# Altium schematic symbol library SAMV71_Xplained_Ultra.SCHLIB: 75 symbols
Pins are listed as number, name and electrical type; pins without a type are passive.

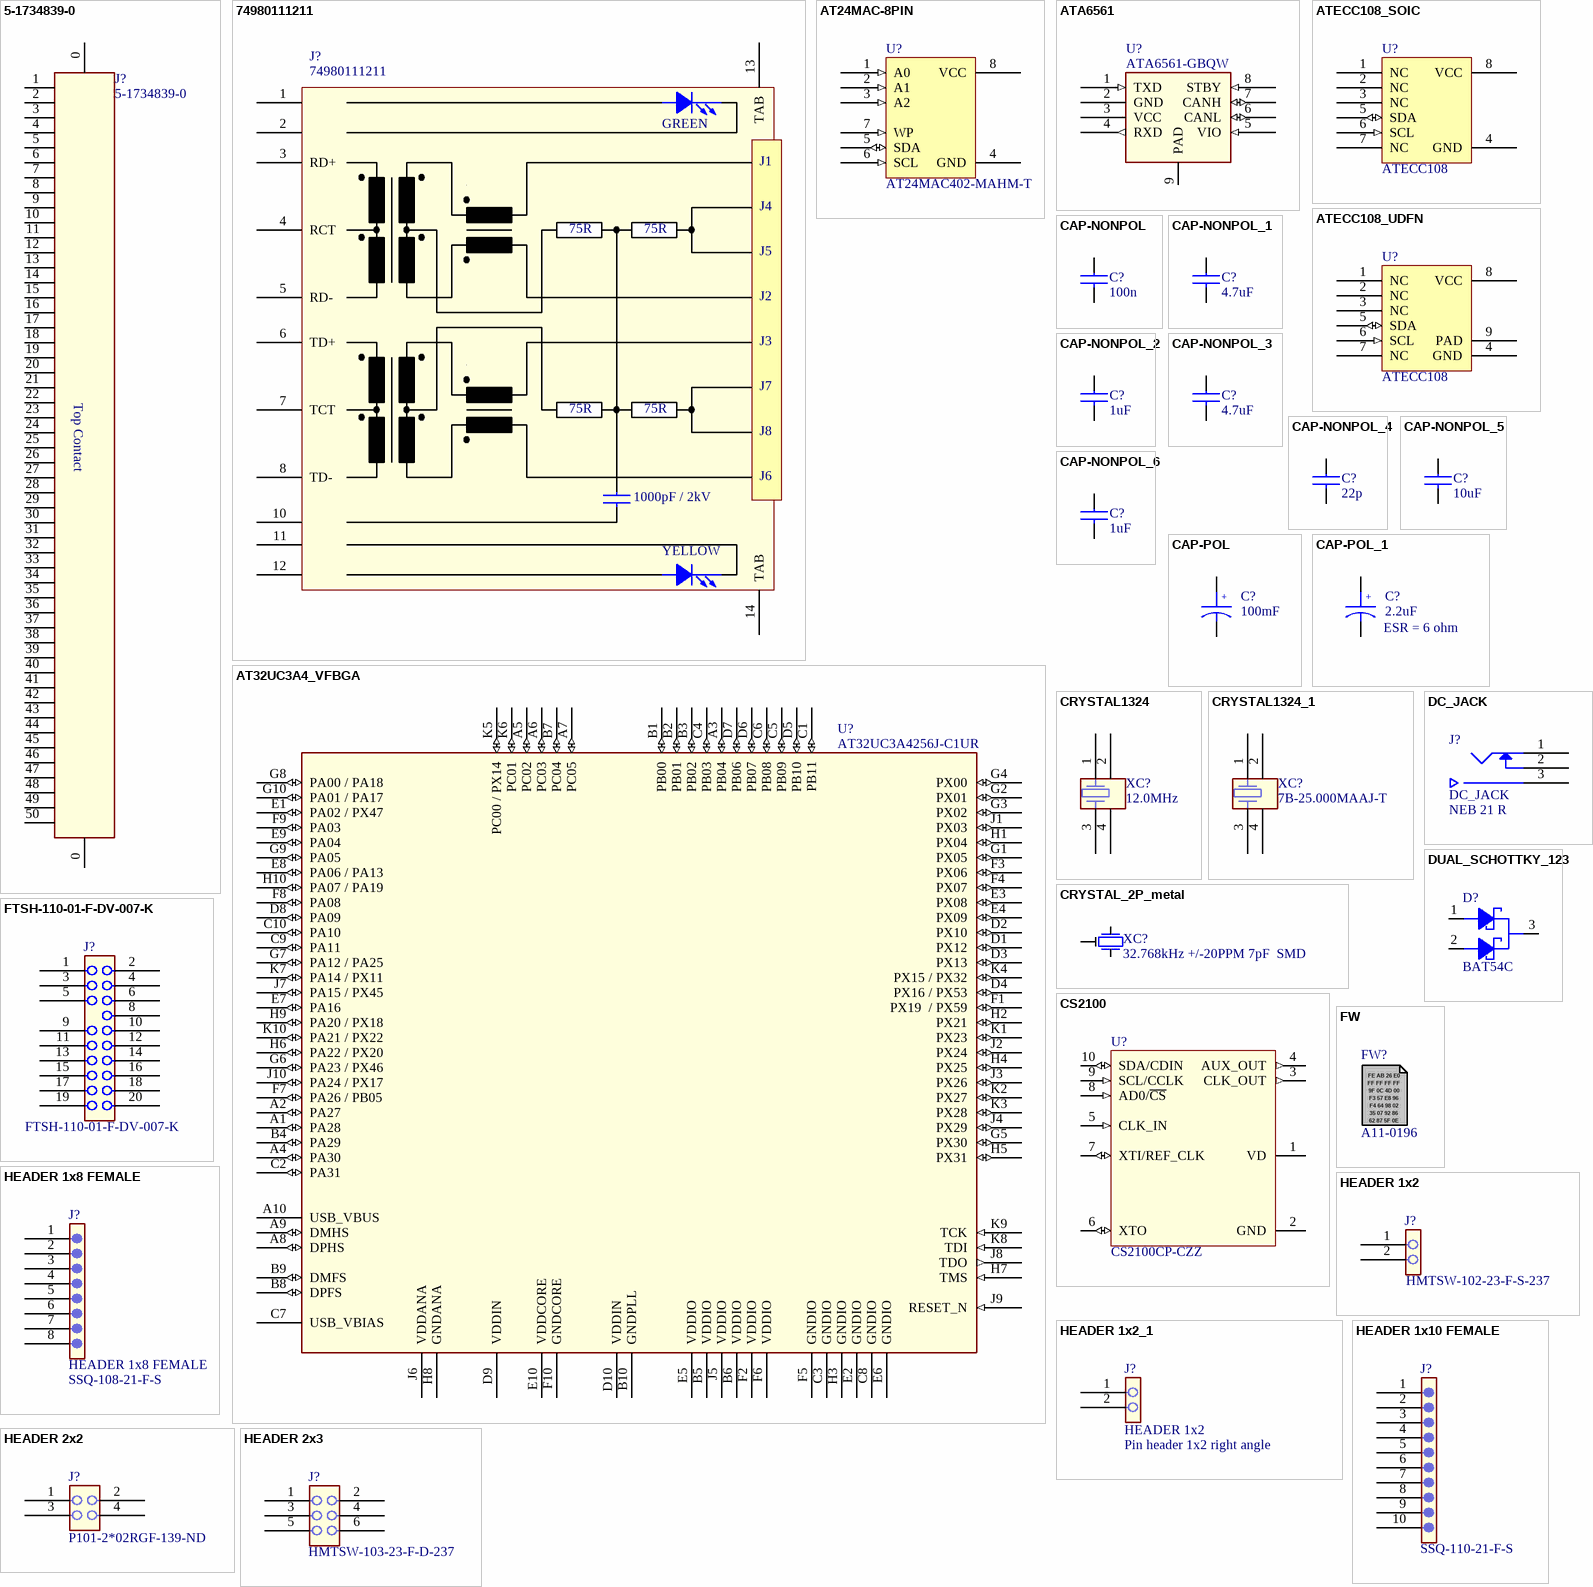
[diagram p0: symbols 5-1734839-0 to HEADER 2x3]

## 5-1734839-0
designator J?, comment value 5-1734839-0  (hidden comment: Used for Xplained Pro MCU board on top layer.)
50 pin FPC connector, e=0.5mm, single side contact (top).; PartGroup: Mechanical devices,Connectors,PCB - receptacle; Manufacturer: TE Connectivity; AN: A08-1886; TemperatureRange: -20°C to +85°C; Height: 2.04999995231628; MPN: 5-1734839-0
footprint AP8-00774
pins: 0 1, 0 1, 1, 2, 3, 4, 5, 6, 7, 8, 9, 10, 11, 12, 13, 14, 15, 16, 17, 18, 19, 20, 21, 22, 23, 24, 25, 26, 27, 28, 29, 30, 31, 32, 33, 34, 35, 36, 37, 38, 39, 40, 41, 42, 43, 44, 45, 46, 47, 48, 49, 50
text: Top Contact

## 74980111211
designator J?, comment value 74980111211  (hidden comment: RJ45)
10/100Base-TX, SMD, RJ45, green and yellow LEDs, integrated magnetics; PartGroup: Mechanical devices,Connectors,Other; Manufacturer: Würth Elektronik; AN: A08-1816; TemperatureRange: -40°C to +85°C; Height: 13,6099996566772; MPN: 74980111211
footprint AP8-00749
pins: 1, 2, 3 RD+, 4 RCT, 5 RD-, 6 TD+, 7 TCT, 8 TD-, 10, 11, 12, 13 TAB (power), 14 TAB (power)
text: GREEN; J1; J4; 75R; J5; J2; J3; J7; J8; J6; 1000pF / 2kV; YELLOW

## AT24MAC-8PIN
designator U?  value AT24MAC402-MAHM-T  (hidden comment: AT24MAC-8PIN)
2kbit I2C EEPROM, single EUI-48 MAC, 1.7-5.5V, 2x3mm UDFN (8MA2); PartGroup: Integrated Circuits,Memory,EEPROM; AN: A06-1169; TemperatureRange: â€“40Â°C to +85Â°C; Height: 0,600000023841858
footprint AP6-00186
pins: 1 A0 (in), 2 A1 (in), 3 A2 (in), 4 GND (power), 5 SDA (io), 6 SCL (in), 7 WP (in), 8 VCC (power)

## AT32UC3A4_VFBGA
designator U?, comment value AT32UC3A4256J-C1UR  (hidden comment: 100 ball VFBGA)
AVR 32-bit RISC MCU; PartGroup: Integrated Circuits,MCU, MPU, DSP,AVR MCU; Manufacturer: ATMEL; AN: A06-0736; TemperatureRange: -40 to +85 deg C; Height: 1; MPN: AT32UC3A4256J-C1UR
footprint AP6-00206
pins: A1 PA28 (io), A2 PA27 (io), A3 PB04 (io), A4 PA30 (io), A5 PC02 (io), A6 PC03 (io), A7 PC05 (io), A8 DPHS (io), A9 DMHS (io), A10 USB_VBUS (power), B1 PB00 (io), B2 PB01 (io), B3 PB02 (io), B4 PA29 (io), B5 VDDIO (power), B6 VDDIO (power), B7 PC04 (io), B8 DPFS (io), B9 DMFS (io), B10 GNDPLL (power), C1 PB11 (io), C2 PA31 (io), C3 GNDIO (power), C4 PB03 (io), C5 PB09 (io), C6 PB08 (io), C7 USB_VBIAS (power), C8 GNDIO (power), C9 PA11 (io), C10 PA10 (io), D1 PX12 (io), D2 PX10 (io), D3 PX13 (io), D4 PX16 / PX53 (io), D5 PB10 (io), D6 PB07 (io), D7 PB06 (io), D8 PA09 (io), D9 VDDIN (power), D10 VDDIN (power), E1 PA02 / PX47 (io), E2 GNDIO (power), E3 PX08 (io), E4 PX09 (io), E5 VDDIO (power), E6 GNDIO (power), E7 PA16 (io), E8 PA06 / PA13 (io), E9 PA04 (io), E10 VDDCORE (power), F1 PX19  / PX59 (io), F2 VDDIO (power), F3 PX06 (io), F4 PX07 (io), F5 GNDIO (power), F6 VDDIO (power), F7 PA26 / PB05 (io), F8 PA08 (io), F9 PA03 (io), F10 GNDCORE (power), G1 PX05 (io), G2 PX01 (io), G3 PX02 (io), G4 PX00 (io), G5 PX30 (io), G6 PA23 / PX46 (io), G7 PA12 / PA25 (io), G8 PA00 / PA18 (io), G9 PA05 (io), G10 PA01 / PA17 (io), H1 PX04 (io), H2 PX21 (io), H3 GNDIO (power), H4 PX25 (io), H5 PX31 (io), H6 PA22 / PX20 (io), H7 TMS (in), H8 GNDANA (power), H9 PA20 / PX18 (io), H10 PA07 / PA19 (io), J1 PX03 (io), J2 PX24 (io), J3 PX26 (io), J4 PX29 (io), J5 VDDIO (power), J6 VDDANA (power), J7 PA15 / PX45 (io), J8 TDO (out), J9 RESET_N (in), J10 PA24 / PX17 (io), K1 PX23 (io), K2 PX27 (io), K3 PX28 (io), K4 PX15 / PX32 (io), K5 PC00 / PX14 (io), K6 PC01 (io), K7 PA14 / PX11 (io), K8 TDI (in), K9 TCK (in), K10 PA21 / PX22 (io)

## ATA6561
designator U?  value ATA6561-GBQW  (hidden comment: ATA6561)
5Mbit/s CAN Trasceiver,VCC = 5V, VIO = 2.8-5V, 3x3 mm VDFN8; PartGroup: Integrated Circuits,Interface ICs,CAN; AN: A06-1172; Height: 0,899999976158142
footprint AP6-00407
pins: 1 TXD (in), 2 GND (power), 3 VCC (power), 4 RXD (out), 5 VIO (in), 6 CANL (io), 7 CANH (io), 8 STBY (in), 9 PAD (power)

## ATECC108_SOIC
designator U?, comment value ATECC108  (hidden comment: SOIC-8 / UDFN8 2x3mm (8MA2) footprint used for this component, usually for "not mounted" in schematics to support several Crypto devices.)
Secure authentication and product validation device, EEPROM, I2C, 2.0 - 5.5V, SOIC8; PartGroup: Integrated Circuits,Special function,Encryption; AN: A06-1182; TemperatureRange: -40Â°C to +85Â°C; Height: 1,75
footprint AP6-00071
pins: 1 NC, 2 NC, 3 NC, 4 GND (power), 5 SDA (io), 6 SCL (in), 7 NC, 8 VCC (power)

## ATECC108_UDFN
designator U?, comment value ATECC108  (hidden comment: SOIC-8 / UDFN8 2x3mm (8MA2) footprint used for this component, usually for "not mounted" in schematics to support several Crypto devices.)
Secure authentication and product validation device, EEPROM, I2C, 2.0 - 5.5V, UDFN8; PartGroup: Integrated Circuits,Special function,Encryption; AN: A06-1181; TemperatureRange: -40Â°C to +85Â°C; Height: 1,75
footprint AP6-00409
pins: 1 NC, 2 NC, 3 NC, 4 GND (power), 5 SDA (io), 6 SCL (in), 7 NC, 8 VCC (power), 9 PAD (power)

## CAP-NONPOL
designator C?  value 100n  (hidden comment: CAP-NONPOL)
Ceramic capacitor, SMD 0402, X7R, 16V, +/-10%; PartGroup: Capacitors,Ceramic,SMD 0402; Manufacturer: Kemet; MPN: C0402C104K4RACTU; AN: A01-0246; TemperatureRange: -55 - +125 deg C; Tolerance: 16V, +/-10%; Height: 0.5
footprint AP1-00001
pins: 1, 2

## CAP-NONPOL_1
designator C?, comment value 4.7uF  (hidden comment: CAP-NONPOL)
Ceramic capacitor, SMD 0603, X5R, 10V, 10% (de31036); PartGroup: Capacitors,Ceramic,SMD 0603; Manufacturer: tdk; MPN: C1608X5R1A475K; AN: A01-0377; TemperatureRange: -55 - +85 deg C; Tolerance: 10%; Height: 0.800000011920929
footprint AP1-00039
pins: 1, 2

## CAP-NONPOL_2
designator C?, comment value 1uF  (hidden comment: CAP-NONPOL)
Ceramic capacitor, SMD 0402, X5R, 10V, ±10 %; PartGroup: Capacitors,Ceramic,SMD 0402; Manufacturer: AVX; MPN: 0402ZD105KAT2A; AN: A01-0447; Height: 0.560000002384186
footprint AP1-00038
pins: 1, 2

## CAP-NONPOL_3
designator C?, comment value 4.7uF  (hidden comment: CAP-NONPOL)
Ceramic capacitor, SMD 0805, X5R, 25V, ±10 %; PartGroup: Capacitors,Ceramic,SMD 0805; Manufacturer: Murata; MPN: GRM21BR61E475KA12L; AN: A01-0400; Tolerance: ±10%; Height: 1,25
footprint AP1-00003
pins: 1, 2

## CAP-NONPOL_4
designator C?, comment 22p
Ceramic capacitor, SMD 0402, NP0, 50V, +/-5%; PartGroup: Capacitors,Ceramic,SMD 0402; AN: A01-0019; TemperatureRange: -55 - +125 deg C; Value: 22p; Tolerance: 50V, +/-5%; Height: 0,550000011920929
footprint AP1-00001
footprint AP1-00053
pins: 1, 2

## CAP-NONPOL_5
designator C?, comment value 10uF  (hidden comment: CAP-NONPOL)
Ceramic capacitor, SMD 0805, X7R, 10V, 10 %, (de19441); PartGroup: Capacitors,Ceramic,SMD 0805; Manufacturer: Murata; MPN: GRM21BR61A106KE19L; AN: A01-0360; Tolerance: 10%; TemperatureRange: -55 - +85 deg C; Height: 1,25
footprint AP1-00041
pins: 1, 2

## CAP-NONPOL_6
designator C?, comment value 1uF  (hidden comment: CAP-NONPOL)
Ceramic capacitor, SMD 0402, X5R, 10V, ±10 %; PartGroup: Capacitors,Ceramic,SMD 0402; Manufacturer: AVX; MPN: 0402ZD105KAT2A; AN: A01-0447; Height: 0.560000002384186
footprint AP1-00038
footprint AP1-00053
pins: 1, 2

## CAP-POL
designator C?, comment value 100mF  (hidden comment: For reflow soldering)
Electric Double-Layer (Supercapacitor), 100mF, SMD, 10.5mm diameter, 25Î© ESR; PartGroup: Capacitors,Other; AN: A01-0679; Tolerance: -20/+80%; TemperatureRange: -25Â°C to +70Â°C
footprint AP1-00122
pins: 1, 2
text: +

## CAP-POL_1
designator C?, comment ESR = 6 ohm  value 2.2uF
Capacitor Tantalum 10V 2.2uF 10% ESR = 6 ohm; PartGroup: Capacitors,Tantalum; Manufacturer: Kemet; MPN: T494A225K010AT; AN: A01-0492; TemperatureRange: - 55 C to + 125 C; Tolerance: ±10%; Height: 1,79999995231628
footprint AP1-00036
pins: 1, 2
text: +

## CRYSTAL1324
designator XC?  value 12.0MHz  (hidden comment: CRYSTAL1324)
Fox FQ5032B 12.0MHz SMD crystal 738B-12; PartGroup: Frequency devices,Crystals,SMD; Manufacturer: Fox  Electronics; MPN: FQ5032B-12-C-C-C-200-1 / 738B-12; AN: A07-0042; Tolerance: 30PPM; Height: 1,20000004768372
footprint AP7-00039
pins: 1, 2, 3, 4

## CRYSTAL1324_1
designator XC?, comment value 7B-25.000MAAJ-T  (hidden comment: CRYSTAL1324)
25.000 MHz crystal, 18pF, ±30ppm, 5.0 x 3.2 mm; PartGroup: Frequency devices,Crystals,SMD; Manufacturer: TXC Corporation; AN: A07-0088; TemperatureRange: -40°C to +85°C; Tolerance: ±30ppm; Height: 1,04999995231628; MPN: 7B-25.000MAAJ-T
footprint AP7-00067
pins: 1, 2, 3, 4

## CRYSTAL_2P_metal
designator XC?, comment value 32.768kHz +/-20PPM 7pF  SMD  (hidden comment: Farnell order no:1539364)
32k768 crystal, +-20ppm, CL=7pF, max ESR 60kOhm, SMD; PartGroup: Frequency devices,Crystals,SMD; Manufacturer: Micro Crystal; MPN: MS1V-T1K 32.768kHz 7pF +/-20PPM TA; AN: A07-0052; Tolerance: +/- 20 PPM; TemperatureRange: -40 /+85; Height: 2.07999992370605
footprint AP7-00044
pins: 1, 2, 3

## CS2100
designator U?  value CS2100CP-CZZ  (hidden comment: CS2100)
Programmable Phase-Locked Loop Clock Generator; PartGroup: Integrated Circuits,Special function,Oscillator; AN: A06-1177; TemperatureRange: -10Â°C to +70Â°C; Height: 1,10000002384186
footprint AP6-00097
pins: 1 VD (power), 2 GND (power), 3 CLK_OUT (out), 4 AUX_OUT (out), 5 CLK_IN (in), 6 XTO (io), 7 XTI/REF_CLK (io), 8 AD0/~{CS} (in), 9 SCL/CCLK (in), 10 SDA/CDIN (io)

## DC_JACK
designator J?  value NEB 21 R
Through hole DC jack 2.1mm, 12V, 3A; PartGroup: Mechanical devices,Connectors,Power; Manufacturer: Lumberg; AN: A08-2120; TemperatureRange: -20Â°C to +70Â°C; Height: 11; MPN: NEB 21 R
footprint AP8-00853
pins: 1, 2, 3

## DUAL_SCHOTTKY_123
designator D?  value BAT54C  (hidden comment: DUAL_SCHOTTKY_123)
Schottky double Diodes, NXP, SOT23-3; PartGroup: Diodes,Schottky; AN: A04-0064; Height: 1; Manufacturer: NXP; MPN: BAT54C
footprint AP5-00002
pins: 1 ANODE1, 2 ANODE2, 3 CATHODE

## FTSH-110-01-F-DV-007-K
designator J?
SAMTEC FTSH series 50-mil header, shrouded, pin 7 removed, SMD; PartGroup: Mechanical devices,Connectors,Pin headers; AN: A08-2290; TemperatureRange: -55Â°C to +125Â°C; Value: FTSH-110-01-F-DV-007-K; Height: 6,1100001335144
footprint AP8-00910
pins: 1, 2, 3, 4, 5, 6, 8, 9, 10, 11, 12, 13, 14, 15, 16, 17, 18, 19, 20

## FW
designator FW?  AN: A11-0196  (hidden comment: FW)  (mechanical)
EDBG secured firmware; PartGroup: Software,Firmware,Tools; Manufacturer: ATMEL; Value: EDBG secured firmware
text: FE AB 26 E0; FF FF FF FF; 9F 0C 4D 00; F3 57 E8 96; F4 64 98 02; 35 07 92 86; 62 87 5F 0E

## HEADER 1x2
designator J?  value HMTSW-102-23-F-S-237  (hidden comment: HEADER 1x2)
1x2 pin header, 2.54mm pitch, Pin-in-Paste THM; PartGroup: Mechanical devices,Connectors,Pin headers; Manufacturer: SAMTEC; AN: A08-1754; TemperatureRange: - 55 deg C to + 125 deg C; Height: 6,09999990463257; MPN: HMTSW-102-23-F-S-237
footprint AP8-00733
pins: 1, 2

## HEADER 1x2_1
designator J?, comment HEADER 1x2  value Pin header 1x2 right angle
1x2 pin header, right angle, 2.54 mm pitch, through-hole; PartGroup: Mechanical devices,Connectors,Pin headers; Manufacturer: Pro-data International Corp; MPN: 2213R-2G; AN: A08-0764; Height: 2.53999996185303
footprint AP8-00367
pins: 1, 2

## HEADER 1x8 FEMALE
designator J?  value SSQ-108-21-F-S
1x8 receptacle pin header, low insertion force, 2.54mm pitch THM, Pin in Paste; PartGroup: Mechanical devices,Connectors,Pin header receptacle; Manufacturer: SAMTEC; AN: A08-2025; Height: 8,51000022888184; MPN: SSQ-108-21-F-S
footprint AP8-00823
pins: 1, 2, 3, 4, 5, 6, 7, 8

## HEADER 1x10 FEMALE
designator J?  value SSQ-110-21-F-S  (hidden comment: HEADER 1x10 FEMALE)
1x10 receptacle pin header, low insertion force, 2.54mm pitch THM, Pin in Paste; PartGroup: Mechanical devices,Connectors,Pin header receptacle; Manufacturer: SAMTEC; AN: A08-2026; Height: 8,51000022888184; MPN: SSQ-110-21-F-S
footprint AP8-00822
pins: 1, 2, 3, 4, 5, 6, 7, 8, 9, 10

## HEADER 2x2
designator J?  value P101-2*02RGF-139-ND  (hidden comment: HEADER 2x2)
Pin header, 2x2, Right Angle, 2.54mm, THT, Pin In Paste; PartGroup: Mechanical devices,Connectors,Pin headers; AN: A08-1519; Height: 5.07999992370605; MPN: P101-2*02RGF-139-ND
footprint AP8-00628
pins: 1, 2, 3, 4

## HEADER 2x3
designator J?  value HMTSW-103-23-F-D-237  (hidden comment: HEADER 2x3)
2x3 pin header, 2.54mm pitch, Pin-in-Paste THM; PartGroup: Mechanical devices,Connectors,Pin headers; Manufacturer: SAMTEC; AN: A08-1654; TemperatureRange: - 55 ï¿½C to + 125 ï¿½C; Height: 6,09999990463257; MPN: HMTSW-103-23-F-D-237
footprint AP8-00182
pins: 1, 2, 3, 4, 5, 6
1 alternate drawing of the same symbol

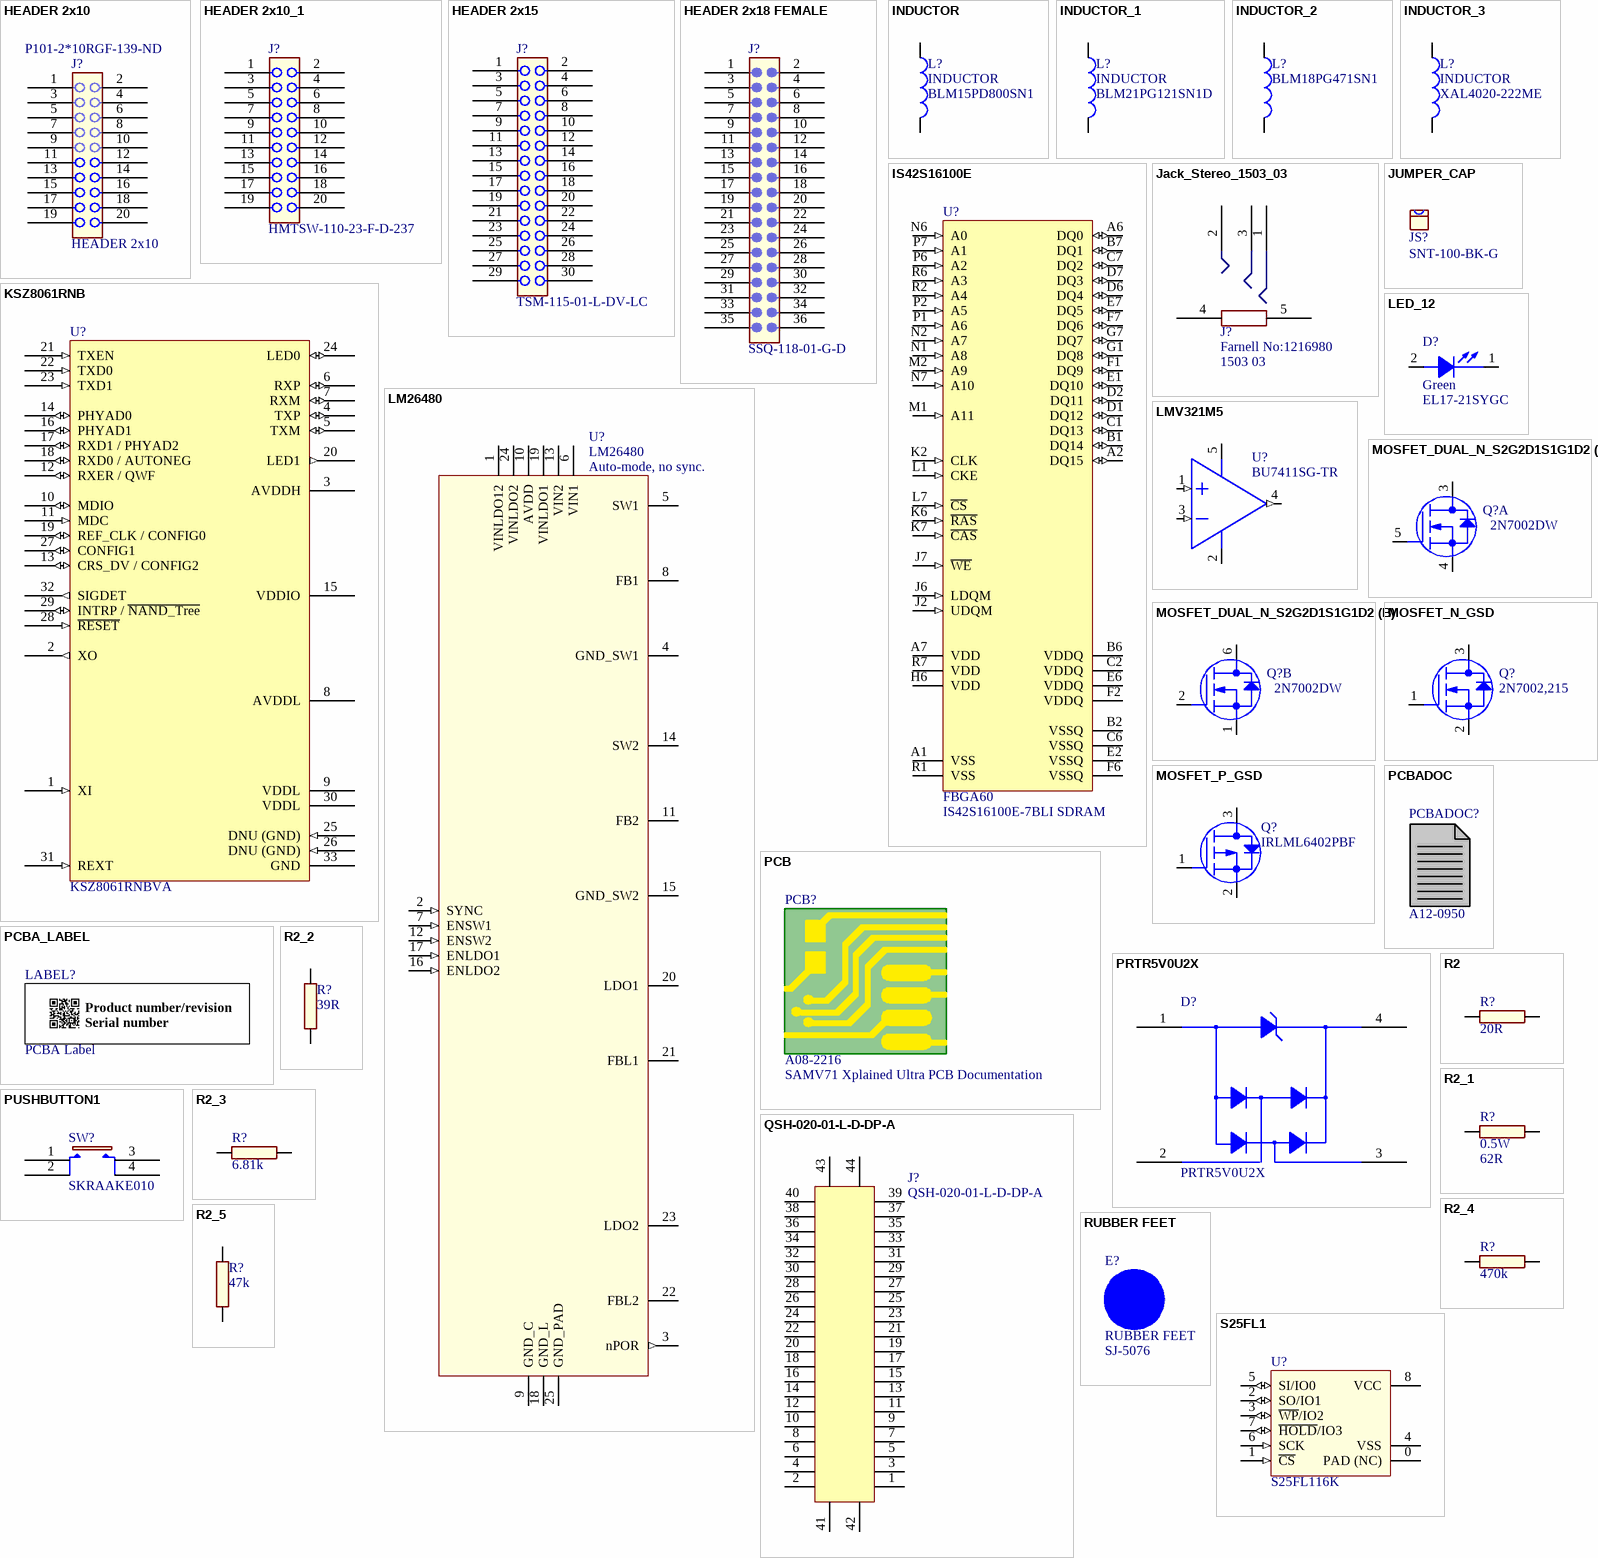
[diagram p1: symbols HEADER 2x10 to S25FL1]

## HEADER 2x10
designator J?  value P101-2*10RGF-139-ND
Pin header, 2x10, Right Angle, 2.54mm, THM, Pin In Paste; PartGroup: Mechanical devices,Connectors,Pin headers; AN: A08-1513; MPN: P101-2*10RGF-139-ND
footprint AP8-00622
pins: 1, 2, 3, 4, 5, 6, 7, 8, 9, 10, 11, 12, 13, 14, 15, 16, 17, 18, 19, 20

## HEADER 2x10_1
designator J?, comment value HMTSW-110-23-F-D-237  (hidden comment: Same as A08-1514 but with 1mm hole)
2x10 pin header, 2.54mm pitch, Pin-in-Paste THM, 1mm hole; PartGroup: Mechanical devices,Connectors,Pin headers; Manufacturer: SAMTEC; AN: A08-1801; Height: 6,09999990463257; MPN: HMTSW-110-23-F-D-237
footprint AP8-00744
pins: 1, 2, 3, 4, 5, 6, 7, 8, 9, 10, 11, 12, 13, 14, 15, 16, 17, 18, 19, 20

## HEADER 2x15
designator J?  value TSM-115-01-L-DV-LC  (hidden comment: HEADER 2x15)
Samtec TSM series, 2x15 pin header, straight, 2.54mm pitch SMD, locking leads.; PartGroup: Mechanical devices,Connectors,Pin headers; AN: A08-2225; TemperatureRange: -55Â°C to +125Â°C; Height: 9,64999961853027
footprint AP8-00884
pins: 1, 2, 3, 4, 5, 6, 7, 8, 9, 10, 11, 12, 13, 14, 15, 16, 17, 18, 19, 20, 21, 22, 23, 24, 25, 26, 27, 28, 29, 30

## HEADER 2x18 FEMALE
designator J?  value SSQ-118-01-G-D  (hidden comment: HEADER 2x18 FEMALE)
2x18 female pin header, 2.54mm pitch, THM; PartGroup: Mechanical devices,Connectors,Pin header receptacle; Manufacturer: SAMTEC; AN: A08-0387; TemperatureRange: -55 - +125 degC; Height: 8,51000022888184; MPN: SSQ-118-01-G-D
footprint AP8-00259
pins: 1, 2, 3, 4, 5, 6, 7, 8, 9, 10, 11, 12, 13, 14, 15, 16, 17, 18, 19, 20, 21, 22, 23, 24, 25, 26, 27, 28, 29, 30, 31, 32, 33, 34, 35, 36

## INDUCTOR
designator L?  value BLM15PD800SN1
FERRITE CHIP 80 OHM 1500MA 0402; PartGroup: Inductors,EMI; Manufacturer: Murata; AN: A03-0142; Tolerance: ±25%; TemperatureRange: -55 ° C to +125 ° C; Height: 0.5; MPN: BLM15PD800SN1
footprint AP3-00028
pins: 1, 2

## INDUCTOR_1
designator L?, comment INDUCTOR  value BLM21PG121SN1D
SMD EMI FERRITE 0805, Z=120 ohm(@100MHz), Max R(dc)=0.03 ohm, Max current=3A, (Digikey:490-5986-2-ND); PartGroup: Inductors,EMI; Manufacturer: Murata; AN: A03-0167; TemperatureRange: -55 to +125Â°C; Height: 0.899999976158142; MPN: BLM21PG121SN1D
footprint AP3-00104
pins: 1, 2

## INDUCTOR_2
designator L?, comment BLM18PG471SN1
SMD RF inductor 0603. Z=470Ohm (@100MHz), Max R(dc)=0.65Ohm, Max current=1A; PartGroup: Inductors,EMI; Manufacturer: Murata; AN: A03-0035; Tolerance: ±25%; TemperatureRange: -55°C to +125°C; Value: BLM18PG471SN1; Height: 0,800000011920929; MPN: BLM18PG471SN1
footprint AP3-00005
pins: 1, 2

## INDUCTOR_3
designator L?, comment INDUCTOR  value XAL4020-222ME
2.2ÂµH Shielded Power Inductor, 4x4x2mm, Isat=5.6A , Irms=4.0A , DCR=35.2mÎ©; PartGroup: Inductors,Power Inductors; AN: A03-0197; Tolerance: 20%; TemperatureRange: â€“40Â°C to +125Â°C; Height: 2
footprint AP3-00119
pins: 1, 2

## IS42S16100E
designator U?, comment FBGA60  value IS42S16100E-7BLI SDRAM
16Mbit  SDRAM (512K Words x 16 Bits x 2 Banks), 143 MHz 3,3V; PartGroup: Integrated Circuits,Memory,SDRAM; AN: A06-1155; TemperatureRange: -40C to +85C; Height: 1,20000004768372
footprint AP6-00400
pins: A1 VSS (power), A2 DQ15 (io), A6 DQ0 (io), A7 VDD (power), B1 DQ14 (io), B2 VSSQ (power), B6 VDDQ (power), B7 DQ1 (io), C1 DQ13 (io), C2 VDDQ (power), C6 VSSQ (power), C7 DQ2 (io), D1 DQ12 (io), D2 DQ11 (io), D6 DQ4 (io), D7 DQ3 (io), E1 DQ10 (io), E2 VSSQ (power), E6 VDDQ (power), E7 DQ5 (io), F1 DQ9 (io), F2 VDDQ (power), F6 VSSQ (power), F7 DQ6 (io), G1 DQ8 (io), G7 DQ7 (io), H6 VDD (power), J2 UDQM (in), J6 LDQM (in), J7 ~{WE} (in), K2 CLK (in), K6 ~{RAS} (in), K7 ~{CAS} (in), L1 CKE (in), L7 ~{CS} (in), M1 A11 (in), M2 A9 (in), N1 A8 (in), N2 A7 (in), N6 A0 (in), N7 A10 (in), P1 A6 (in), P2 A5 (in), P6 A2 (in), P7 A1 (in), R1 VSS (power), R2 A4 (in), R6 A3 (in), R7 VDD (power)

## Jack_Stereo_1503_03
designator J?, comment Farnell No:1216980  value 1503 03
3.5mm stereo phone jack; PartGroup: Mechanical devices,Connectors,Other; Manufacturer: Lumberg; AN: A08-0886; Height: 5; MPN: 1503 03
footprint AP8-00397
pins: 1 GND, 2, 3, 4, 5

## JUMPER_CAP
designator JS?  value SNT-100-BK-G
Jumper cap for 2.54mm pinheader; PartGroup: Mechanical devices,Mounting accessories,Other; Manufacturer: SAMTEC; AN: A08-0543; MPN: SNT-100-BK-G
footprint AP8-00525

## KSZ8061RNB
designator U?  value KSZ8061RNBVA  (hidden comment: KSZ8061RNB)
10Base-T/100Base-TX PHY, RMII, EEE, 50MHz clock output, AEC-Q100 Automotive; PartGroup: Integrated Circuits,Interface ICs,Ethernet; AN: A06-1163; TemperatureRange: -40Â°C to +105Â°C; Height: 0,850000023841858
footprint AP6-00349
pins: 1 XI (in), 2 XO (out), 3 AVDDH (power), 4 TXP (io), 5 TXM (io), 6 RXP (io), 7 RXM (io), 8 AVDDL (power), 9 VDDL (power), 10 MDIO (io), 11 MDC (in), 12 RXER / QWF (io), 13 CRS_DV / CONFIG2 (io), 14 PHYAD0 (io), 15 VDDIO (power), 16 PHYAD1 (io), 17 RXD1 / PHYAD2 (io), 18 RXD0 / AUTONEG (io), 19 REF_CLK / CONFIG0 (io), 20 LED1 (out), 21 TXEN (in), 22 TXD0 (in), 23 TXD1 (in), 24 LED0 (io), 25 DNU (GND) (in), 26 DNU (GND) (in), 27 CONFIG1 (io), 28 ~{RESET} (in), 29 INTRP / ~{NAND_Tree} (io), 30 VDDL (power), 31 REXT (in), 32 SIGDET (out), 33 GND (power)

## LED_12
designator D?, comment Green  value EL17-21SYGC
LED, Green, Wave length=575nm, SMD 0805, ±70°; PartGroup: Opto,LEDs,SMD; Manufacturer: Everlight; AN: A10-0018; TemperatureRange: -40 - +85 deg C; Height: 1,10000002384186; MPN: EL17-21SYGC
footprint AP4-00013
pins: 1 CATHODE, 2 ANODE

## LM26480
designator U?, comment Auto-mode, no sync.  value LM26480
Externally Programmable Dual High-Current Step-Down DC/DC and Dual Linear Regulators; PartGroup: Integrated Circuits,Regulators,Switched; AN: A06-1165; TemperatureRange: -40C to 85C; Height: 0,800000011920929
footprint AP6-00380
pins: 1 VINLDO12 (power), 2 SYNC (in), 3 nPOR (out), 4 GND_SW1 (power), 5 SW1 (power), 6 VIN1 (power), 7 ENSW1 (in), 8 FB1 (power), 9 GND_C (power), 10 AVDD (power), 11 FB2 (power), 12 ENSW2 (in), 13 VIN2 (power), 14 SW2 (power), 15 GND_SW2 (power), 16 ENLDO2 (in), 17 ENLDO1 (in), 18 GND_L (power), 19 VINLDO1 (power), 20 LDO1 (power), 21 FBL1 (power), 22 FBL2 (power), 23 LDO2 (power), 24 VINLDO2 (power), 25 GND_PAD

## LMV321M5
designator U?  value BU7411SG-TR
Single, Low Voltage (1.6-5.5V), Low Power (0.35ÂµA), low cost; PartGroup: Integrated Circuits,General linear,OP-AMP; AN: A06-1239; TemperatureRange: -40Â°C to +105Â°C; Height: 1,25
footprint AP6-00087
pins: 1 IN+ (in), 2 GND (power), 3 IN- (in), 4 OUT (out), 5 VCC (power)

## MOSFET_DUAL_N_S2G2D1S1G1D2
designator Q?, comment value 2N7002DW  (hidden comment: Same as 2N7002 but with two MOSFETs in one package)
Dual N-Channel MOSFET, 60V, 115mA cont,RDS(ON) < 7.5 Ohm @50mA@5V, SOT-363; PartGroup: Transistors,Small signal FET,SMD; Manufacturer: Fairchild; AN: A05-0051; TemperatureRange: -65 to 150 deg C; Height: 1,10000002384186; MPN: 2N7002DW
footprint AP5-00001
part A pins: 3 D1, 4 S1, 5 G1
part B pins: 1 S2, 2 G2, 6 D2

## MOSFET_N_GSD
designator Q?  value 2N7002,215  (hidden comment: MOSFET_N_GSD)
N-Channel MOSFET. 60V, 0.300A continuous, 1.2A Peak. RDS(ON) = 3.8Ohm@VGS=4.5V, VGS(th)<2.5V; PartGroup: Transistors,Small signal FET,SMD; Manufacturer: NXP; AN: A05-0085; TemperatureRange: -65 to 150 deg C; Height: 1.10000002384186; MPN: 2N7002,215
footprint AP5-00002
pins: 1 G, 2 S, 3 D

## MOSFET_P_GSD
designator Q?  value IRLML6402PBF  (hidden comment: MOSFET_P_GSD)
P-ch. MOSFET. -30V, -3.7A continuous,RDS(ON)=0.05Ohm@VGS=-4,5V, RDS(ON)=0.08Ohm@VGS=-2.5V; PartGroup: Transistors,Power FET,SMD; Manufacturer: International Rectifier; AN: A05-0087; TemperatureRange: -55 - +150 deg C; Height: 1.14999997615814; MPN: IRLML6402PBF
footprint AP5-00002
pins: 1 G, 2 S, 3 D

## PCB
designator PCB?  value SAMV71 Xplained Ultra PCB Documentation  AN: A08-2216  (hidden comment: PCB)  (mechanical)
SAMV7 Xplained Ultra PCB Documentation; PartGroup: Mechanical devices,Printed circuit boards

## PCBA_LABEL
designator LABEL?  value PCBA Label
PCBA identification label PP Top White Gloss; PartGroup: Mechanical devices,Packaging materials,Printed Labels; Manufacturer: ACT Logimark AS; MPN: 505462; AN: A09-0611
footprint AP8-00317
text: / Product number/revision / Serial number

## PCBADOC
designator PCBADOC?  AN: A12-0950  (hidden comment: PCBADOC)  (mechanical)
SAMV7 Xplained pro PCBA Documentation; PartGroup: Documentation,PCBA Documents,Atmel; Value: SAMV7 Xplained pro PCBA Documentation

## PRTR5V0U2X
designator D?
Double rail-to-rail USB ESD protection diode; OrcadPartType: Integrated Circuits&Special function&Protection; Manufacturer: Philips; AN: A06-0236; TemperatureRange: -40 to +85 C; Value: PRTR5V0U2X; PartType: Buy; Height: 1,10000002384186; MPN: PRTR5V0U2X
footprint AP4-00001
pins: 1 GND, 2 I/O 1, 3 I/O 2, 4 VCC

## PUSHBUTTON1
designator SW?, comment value SKRAAKE010  (hidden comment: Can be ordered in low volumes from Mouser)
6.2x6.2 mm SMD tact switch, same as A08-0091 but less force is needed; PartGroup: Mechanical devices,Switches,SMD; Manufacturer: ALPS; AN: A08-0790; TemperatureRange: -30 - +90 deg C; Height: 5,09999990463257; MPN: SKRAAKE010
footprint AP8-00137
pins: 1, 2, 3, 4

## QSH-020-01-L-D-DP-A
designator J?  value QSH-020-01-L-D-DP-A
SAMTEC 0.5mm, 20-pair, High-Speed Differential Pair Socket; PartGroup: Mechanical devices,Connectors,PCB - receptacle; AN: A08-2204; Height: 3.04999995231628
footprint AP8-00878
pins: 1, 2, 3, 4, 5, 6, 7, 8, 9, 10, 11, 12, 13, 14, 15, 16, 17, 18, 19, 20, 21, 22, 23, 24, 25, 26, 27, 28, 29, 30, 31, 32, 33, 34, 35, 36, 37, 38, 39, 40, 41, 42, 43, 44

## R2
designator R?  value 20R  (hidden comment: R2)
Thick film resistor, SMD 0402, 1/16W, 1%; PartGroup: Resistors,SMD,0402 1%; AN: A02-0171; TemperatureRange: -55 - +125 deg C; Tolerance: 1 %; Height: 0.349999994039536
footprint AP2-00000
pins: 1, 2

## R2_1
designator R?, comment 0.5W  value 62R
Thick film resistor, SMD 1210, 0.5W, 1%; PartGroup: Resistors,SMD,1210 1%; AN: A02-0760; Tolerance: 1%
footprint AP2-00008
pins: 1, 2

## R2_2
designator R?, comment value 39R  (hidden comment: R2)
Thick film resistor, SMD 0402, 1/16W, 1%; PartGroup: Resistors,SMD,0402 1%; AN: A02-0178; TemperatureRange: -55 - +125 deg C; Tolerance: 1 %; Height: 0,349999994039536
footprint AP2-00000
footprint AP2-00011
pins: 1, 2

## R2_3
designator R?, comment value 6.81k  (hidden comment: R2)
Thick film resistor, SMD 0402, 1/16W, 1%; PartGroup: Resistors,SMD,0402 1%; AN: A02-0539; TemperatureRange: -55 - +125 deg C; Tolerance: 1%; Height: 0,349999994039536
footprint AP2-00000
footprint AP2-00011 (Chip Resistor, 2-Leads, Body 1,0x0,5mm, IPC High Density)
pins: 1, 2

## R2_4
designator R?, comment value 470k  (hidden comment: R2)
Thick film resistor, SMD 0402, 1/16W, 1%; PartGroup: Resistors,SMD,0402 1%; AN: A02-0276; TemperatureRange: -55 - +125 deg C; Tolerance: 1 %; Height: 0,349999994039536
footprint AP2-00011 (Chip Resistor, 2-Leads, Body 1,0x0,5mm, IPC High Density)
pins: 1, 2

## R2_5
designator R?, comment value 47k  (hidden comment: R2)
Thick film resistor, SMD 0402, 1/16W, 1%; PartGroup: Resistors,SMD,0402 1%; AN: A02-0252; TemperatureRange: -55 - +125 deg C; Tolerance: 1 %; Height: 0.349999994039536
footprint AP2-00000
pins: 1, 2

## RUBBER FEET
designator E?  value SJ-5076
2.8mm adhesive feet,diam 8.0mm; PartGroup: Mechanical devices,Mounting accessories; Manufacturer: 3M; AN: A08-0053; Height: 2,79999995231628; MPN: SJ-5076
footprint AP8-00192
pins: 1 FIDUCIAL

## S25FL1
designator U?, comment value S25FL116K  (hidden comment: Also available as 32- and 64-Mbit.)
16 Mbit (2MB) SPI Quad I/O flash, 3.3V, 108MHz, WSON-8, industrial temperature; PartGroup: Integrated Circuits,Memory,FLASH; AN: A06-1162; TemperatureRange: -40Â°C to +85Â°C; Height: 0,800000011920929
footprint AP6-00402
pins: 0 PAD (NC) (power), 1 ~{CS} (in), 2 SO/IO1 (io), 3 ~{WP}/IO2 (io), 4 VSS (power), 5 SI/IO0 (io), 6 SCK (in), 7 ~{HOLD}/IO3 (io), 8 VCC (power)

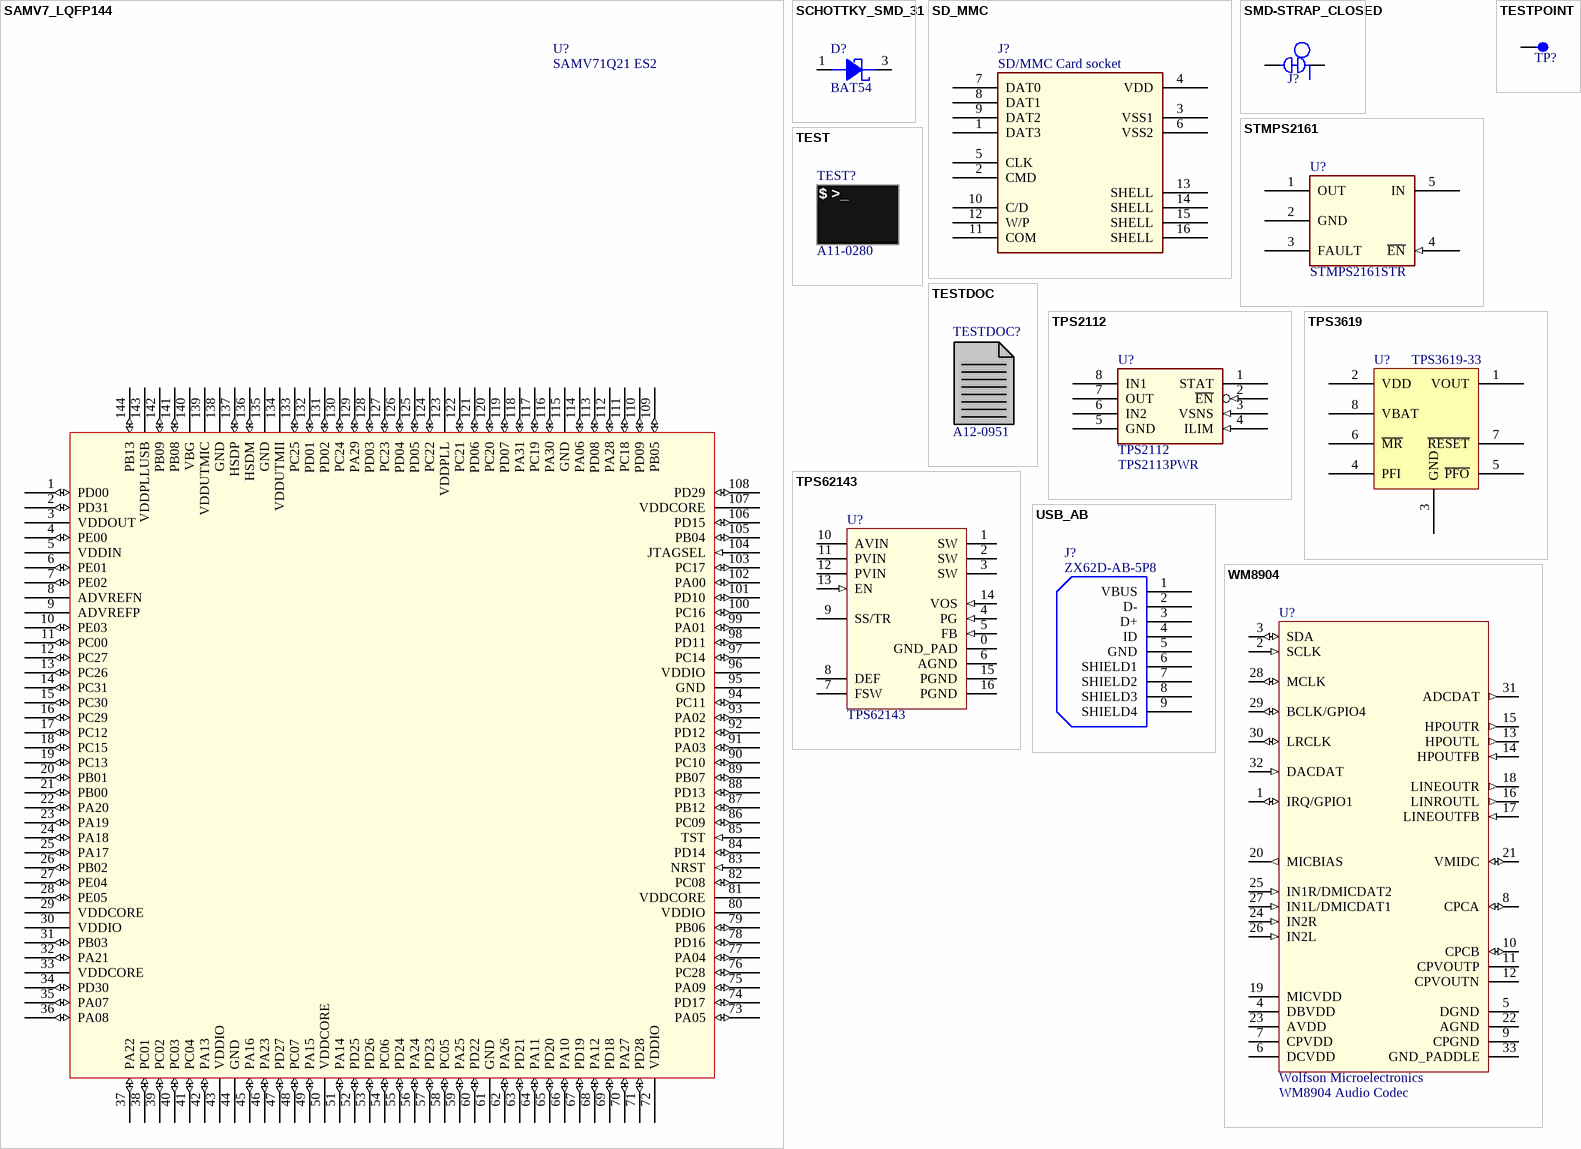
[diagram p2: symbols SAMV7_LQFP144 to WM8904]

## SAMV7_LQFP144
designator U?  value SAMV71Q21 ES2
SAM 32-bit ARM Cortex-M* RISC MCU, SAMV71 Series, QFP144; PartGroup: Integrated Circuits,MCU, MPU, DSP,ARM MCU; AN: A06-1254; TemperatureRange: -40Â°C to +105Â°C; Height: 1,60000002384186
footprint AP6-00118
pins: 1 PD00 (io), 2 PD31 (io), 3 VDDOUT (power), 4 PE00 (io), 5 VDDIN (power), 6 PE01 (io), 7 PE02 (io), 8 ADVREFN (power), 9 ADVREFP (power), 10 PE03 (io), 11 PC00 (io), 12 PC27 (io), 13 PC26 (io), 14 PC31 (io), 15 PC30 (io), 16 PC29 (io), 17 PC12 (io), 18 PC15 (io), 19 PC13 (io), 20 PB01 (io), 21 PB00 (io), 22 PA20 (io), 23 PA19 (io), 24 PA18 (io), 25 PA17 (io), 26 PB02 (io), 27 PE04 (io), 28 PE05 (io), 29 VDDCORE (power), 30 VDDIO (power), 31 PB03 (io), 32 PA21 (io), 33 VDDCORE (power), 34 PD30 (io), 35 PA07 (io), 36 PA08 (io), 37 PA22 (io), 38 PC01 (io), 39 PC02 (io), 40 PC03 (io), 41 PC04 (io), 42 PA13 (io), 43 VDDIO (power), 44 GND (power), 45 PA16 (io), 46 PA23 (io), 47 PD27 (io), 48 PC07 (io), 49 PA15 (io), 50 VDDCORE (power), 51 PA14 (io), 52 PD25 (io), 53 PD26 (io), 54 PC06 (io), 55 PD24 (io), 56 PA24 (io), 57 PD23 (io), 58 PC05 (io), 59 PA25 (io), 60 PD22 (io), 61 GND (power), 62 PA26 (io), 63 PD21 (io), 64 PA11 (io), 65 PD20 (io), 66 PA10 (io), 67 PD19 (io), 68 PA12 (io), 69 PD18 (io), 70 PA27 (io), 71 PD28 (io), 72 VDDIO (power), 73 PA05 (io), 74 PD17 (io), 75 PA09 (io), 76 PC28 (io), 77 PA04 (io), 78 PD16 (io), 79 PB06 (io), 80 VDDIO (power), 81 VDDCORE (power), 82 PC08 (io), 83 NRST (in), 84 PD14 (io), 85 TST (in), 86 PC09 (io), 87 PB12 (io), 88 PD13 (io), 89 PB07 (io), 90 PC10 (io), 91 PA03 (io), 92 PD12 (io), 93 PA02 (io), 94 PC11 (io), 95 GND (power), 96 VDDIO (power), 97 PC14 (io), 98 PD11 (io), 99 PA01 (io), 100 PC16 (io), 101 PD10 (io), 102 PA00 (io), 103 PC17 (io), 104 JTAGSEL (in), 105 PB04 (io), 106 PD15 (io), 107 VDDCORE (power), 108 PD29 (io), 109 PB05 (io), 110 PD09 (io), 111 PC18 (io), 112 PA28 (io), 113 PD08 (io), 114 PA06 (io), 115 GND (power), 116 PA30 (io), 117 PC19 (io), 118 PA31 (io), 119 PD07 (io), 120 PC20 (io), 121 PD06 (io), 122 PC21 (io), 123 VDDPLL (power), 124 PC22 (io), 125 PD05 (io), 126 PD04 (io), 127 PC23 (io), 128 PD03 (io), 129 PA29 (io), 130 PC24 (io), 131 PD02 (io), 132 PD01 (io), 133 PC25 (io), 134 VDDUTMII (power), 135 GND (power), 136 HSDM (io), 137 HSDP (io), 138 GND (power), 139 VDDUTMIC (power), 140 VBG (power), 141 PB08 (io), 142 PB09 (io), 143 VDDPLLUSB (power), 144 PB13 (io)
1 alternate drawing of the same symbol

## SCHOTTKY_SMD_31
designator D?  value BAT54  (hidden comment: SCHOTTKY_SMD_31)
Schottky diode, V(rrm)=30V, I(f)=0.1A, V(f)=0.4V (at If = 0.01A), I(r)=0.5uA (at Vrrm), t(rr)=5ns, SMD SOT23; PartGroup: Diodes,Schottky; Manufacturer: Philips; NC: 2; AN: A04-0001; TemperatureRange: -40 - +85 deg C; Height: 1,10000002384186; MPN: BAT54
footprint AP4-00007
pins: 1 ANODE, 3 CATHODE

## SD_MMC
designator J?, comment SD/MMC Card socket
SD/MMC socket, 2.7mm, push-push, SMD; PartGroup: Mechanical devices,Connectors,Memory cards; Manufacturer: Kyocera-elco; AN: A08-0816; Value: KYOCERA - 14 5738 009 220 859+; TemperatureRange: -25 deg C to 90 deg C; Height: 2.70000004768372; MPN: KYOCERA - 14 5738 009 220 859+
footprint AP8-00377
pins: 1 DAT3, 2 CMD, 3 VSS1, 4 VDD, 5 CLK, 6 VSS2, 7 DAT0, 8 DAT1, 9 DAT2, 10 C/D, 11 COM, 12 W/P, 13 SHELL, 14 SHELL, 15 SHELL, 16 SHELL

## SMD-STRAP_CLOSED
designator J?  (net tie, no BOM)
Default closed SMD strap, 0603 size; PartGroup: Mechanical devices,PCB implemented components; AN: A09-0783; Value: SMD-STRAP_0603_CLOSED; Height: 0
footprint AP9-00044
pins: 1, 2

## STMPS2161
designator U?  value STMPS2161STR  (hidden comment: STMPS2161)
Single channel power switch, 1A, reverse block, active low enabled.; PartGroup: Integrated Circuits,General linear,Analog switch, bus switch and MUX; AN: A06-1087; Tolerance: 2.7 to 5.5V; TemperatureRange: -40Â°C to +85Â°C; Design comment: *; Height: 1,45000004768372
footprint AP6-00087
pins: 1 OUT (power), 2 GND (power), 3 FAULT (oc), 4 ~{EN} (in), 5 IN (power)

## TEST
designator TEST?  AN: A11-0280  (hidden comment: TEST)  (mechanical)
Fixture eggTest for SAMV7 Xplained Ultra; PartGroup: Software,Test software,Starter Kit; Value: SAMV7 Xplained Ultra Test
text: $ >_

## TESTDOC
designator TESTDOC?  AN: A12-0951  (hidden comment: TESTDOC)  (mechanical)
SAMV7 Xplained Pro Test Instructions; PartGroup: Documentation,Procedures,Test Instructions; Value: SAMV7 Xplained Pro Test Instructions

## TESTPOINT
designator TP?  (value not drawn)  (no BOM)
Single SMD testpad; PartGroup: Mechanical devices,Connectors,Test points; AN: A08-0004; Height: 0
footprint AP8-00010
pins: 1

## TPS2112
designator U?  value TPS2113PWR
Autoswitching 2:1 Power Mux; PartGroup: Integrated Circuits,General linear,Analog switch, bus switch and MUX; Manufacturer: Texas Instruments; AN: A06-0068; TemperatureRange: -40 - + 125 deg C; Height: 1.20000004768372; MPN: TPS2113PWR
footprint AP6-00054
pins: 1 STAT (oc), 2 ~{EN} (in), 3 VSNS (in), 4 ILIM (in), 5 GND (power), 6 IN2 (power), 7 OUT (power), 8 IN1 (power)

## TPS3619
designator U?, comment TPS3619-33
Backup battery supervisors for RAM retention; PartGroup: Integrated Circuits,Special function,Supervisor; Manufacturer: Texas Instruments; MPN: TPS3619-33DGK; AN: A06-1100; Design comment: *; Value: TPS3619-33
footprint AP6-00382
pins: 1 VOUT, 2 VDD, 3 GND, 4 PFI, 5 ~{PFO}, 6 ~{MR}, 7 ~{RESET}, 8 VBAT

## TPS62143
designator U?, comment value TPS62143  (hidden comment: 100% duty-cycle mode, supports input voltage close to 5V with 5V output!)
5V to 17V in, 5V 2A out, Step-Down Converter; PartGroup: Integrated Circuits,Regulators,Switched; AN: A06-1167; TemperatureRange: -40C to 85C; Height: 1
footprint AP6-00313
pins: 0 GND_PAD, 1 SW (power), 2 SW (power), 3 SW (power), 4 PG (in), 5 FB (in), 6 AGND (power), 7 FSW (power), 8 DEF (power), 9 SS/TR, 10 AVIN (power), 11 PVIN (power), 12 PVIN (power), 13 EN (in), 14 VOS (in), 15 PGND (power), 16 PGND (power)

## USB_AB
designator J?, comment value ZX62D-AB-5P8  (hidden comment: 2,000 pieces per reel)
Micro USB AB Connector, Standard SMT + DIP; PartGroup: Mechanical devices,Connectors,USB; AN: A08-2112; Height: 2,79999995231628
footprint AP8-00852
pins: 1 VBUS, 2 D-, 3 D+, 4 ID, 5 GND, 6 SHIELD1, 7 SHIELD2, 8 SHIELD3, 9 SHIELD4

## WM8904
designator U?, comment Wolfson Microelectronics  value WM8904 Audio Codec
Ultra Low Power Codec for Portable Audio Applications; PartGroup: Integrated Circuits,Special function,Mixed signal; AN: A06-1156; TemperatureRange: -40C to +85C; Height: 0,800000011920929
footprint AP6-00420
pins: 1 IRQ/GPIO1 (io), 2 SCLK (in), 3 SDA (io), 4 DBVDD (power), 5 DGND (power), 6 DCVDD (power), 7 CPVDD (power), 8 CPCA (io), 9 CPGND (power), 10 CPCB (io), 11 CPVOUTP, 12 CPVOUTN, 13 HPOUTL (out), 14 HPOUTFB (in), 15 HPOUTR (out), 16 LINROUTL (out), 17 LINEOUTFB (in), 18 LINEOUTR (out), 19 MICVDD (power), 20 MICBIAS (out), 21 VMIDC (io), 22 AGND (power), 23 AVDD (power), 24 IN2R (in), 25 IN1R/DMICDAT2 (in), 26 IN2L (in), 27 IN1L/DMICDAT1 (in), 28 MCLK (io), 29 BCLK/GPIO4 (io), 30 LRCLK (io), 31 ADCDAT (out), 32 DACDAT (in), 33 GND_PADDLE (power)